# Altium footprint library HDR.PcbLib: 133 footprints (part 9 of 9)
Each footprint in its own frame and in the unit in brackets; x right, y up, seen from the top. Pads: shape width x height; smd on the part's side, far side on the other; paste and mask are expansions set on the pad; w line width, h text height; cw(c..) or ccw(c..) is an arc to the next point about the centre after c.
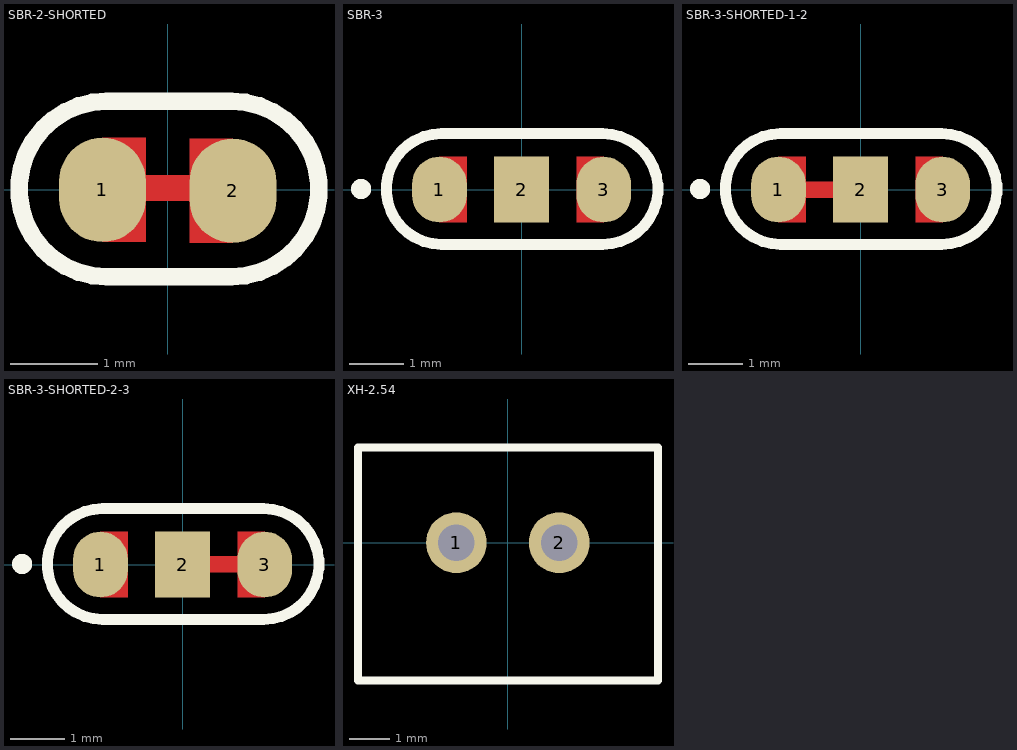
[diagram p8: the footprints below, top view; thin cyan lines are the x and y axes]

## SBR-2-SHORTED [mm] "SolderJumper; 2 Positions"
pads (2):
  oval 1x1.2 smd: 1(-0.75,0) 2(0.75,-0.01)
Top Layer:
  rectangle: -0.75,-0.6 -0.25,0.6
  rectangle: 0.25,-0.61 0.75,0.59
  lines w0.3: -0.4,0.02 0.43,0.02
Top Overlay:
  lines w0.2: -0.7,-1 cw(c-0.7,0.01) -0.7,1.02 0.73,1.02 cw(c0.73,0.01) 0.73,-1 -0.7,-1

## SBR-3 [mm] "SolderJumper; 3 Positions"
pads (3):
  oval 1x1.2 smd: 1(-1.5,0) 3(1.5,0)
  rect 1x1.2 smd: 2(0,0)
Top Layer:
  rectangle: 1,-0.6 1.5,0.6
  rectangle: -1.5,-0.6 -1,0.6
Top Overlay:
  circle w0.254: c-2.93,0.01 r0.057
  lines w0.2: -1.46,-1 cw(c-1.46,0.01) -1.46,1.02 1.48,1.02 cw(c1.48,0.01) 1.48,-1 -1.46,-1

## SBR-3-SHORTED-1-2 [mm] "SolderJumper; 3 Positions"
pads (3):
  oval 1x1.2 smd: 1(-1.5,0) 3(1.5,0)
  rect 1x1.2 smd: 2(0,0)
Top Layer:
  rectangle: -1.5,-0.6 -1,0.6
  rectangle: 1,-0.6 1.5,0.6
  lines w0.3: -1.12,0 -0.39,0
Top Overlay:
  circle w0.254: c-2.93,0.01 r0.057
  lines w0.2: -1.46,-1 cw(c-1.46,0.01) -1.46,1.02 1.48,1.02 cw(c1.48,0.01) 1.48,-1 -1.46,-1

## SBR-3-SHORTED-2-3 [mm] "SolderJumper; 3 Positions"
pads (3):
  oval 1x1.2 smd: 1(-1.5,0) 3(1.5,0)
  rect 1x1.2 smd: 2(0,0)
Top Layer:
  rectangle: 1,-0.6 1.5,0.6
  rectangle: -1.5,-0.6 -1,0.6
  lines w0.3: 0.43,0.003 1.11,0.003
Top Overlay:
  circle w0.254: c-2.93,0.01 r0.057
  lines w0.2: -1.46,-1 cw(c-1.46,0.01) -1.46,1.02 1.48,1.02 cw(c1.48,0.01) 1.48,-1 -1.46,-1

## XH-2.54 [mm] "Connector; Header; 2 Position"
height 7
pads (2):
  round 1.5 hole 0.9: 1(-1.27,0) 2(1.27,0)
Top Overlay:
  lines w0.2: -3.7,2.35 -3.7,-3.4 3.7,-3.4 ; -3.69,2.35 3.71,2.35 3.71,-3.4
3D body "User Library-XH2_54_ZC_2P.step": height 7.3, standoff -3.7, extent -3.67,-3.46 3.73,2.34